# EAGLE library part CLP-107-XX-X-DH-XX_S (library con-samtec-clp)
RECEPTACAL
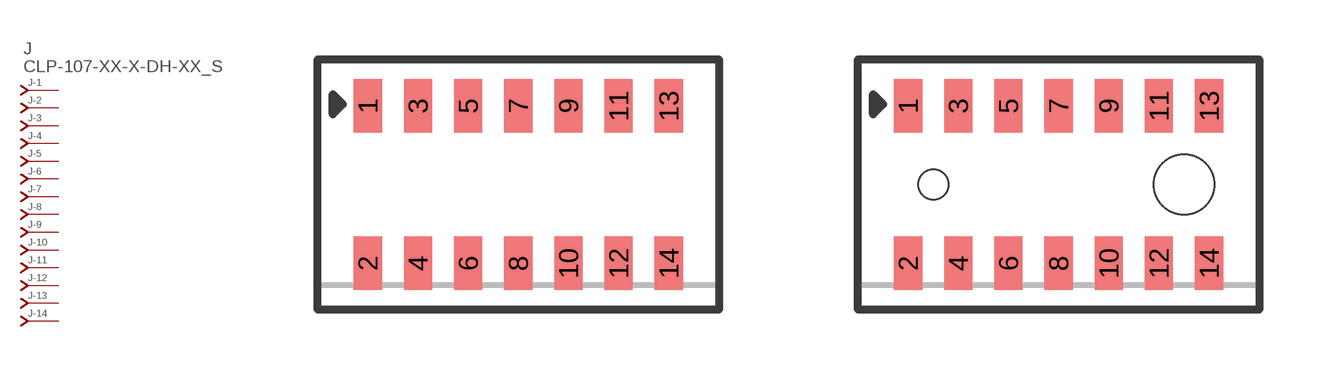
[diagram p12: symbol with the pads of CLP-107-XX-X-DH; footprints CLP-107-XX-X-DH, CLP-107-XX-X-DH-A]

Designator prefix J; gates -1=J-NV -2=J-N -3=J-N -4=J-N -5=J-N -6=J-N -7=J-N -8=J-N -9=J-N -10=J-N -11=J-N -12=J-N -13=J-N -14=J-N

## CLP-107-XX-X-DH-XX_S  [CLP-107-XX-X-DH]
1  -1:J  pas
2  -2:J  pas
3  -3:J  pas
4  -4:J  pas
5  -5:J  pas
6  -6:J  pas
7  -7:J  pas
8  -8:J  pas
9  -9:J  pas
10  -10:J  pas
11  -11:J  pas
12  -12:J  pas
13  -13:J  pas
14  -14:J  pas

## CLP-107-XX-X-DH-XX_SA  [CLP-107-XX-X-DH-A]
Pads as for CLP-107-XX-X-DH

## Footprint CLP-107-XX-X-DH (pad centres in mm)
RECEPTACAL
smd 0.711 x 1.346: 1 -3.81,1.994; 2 -3.81,-1.994; 3 -2.54,1.994; 4 -2.54,-1.994; 5 -1.27,1.994; 6 -1.27,-1.994; 7 0,1.994; 8 0,-1.994; 9 1.27,1.994; 10 1.27,-1.994; 11 2.54,1.994; 12 2.54,-1.994; 13 3.81,1.994; 14 3.81,-1.994

## Footprint CLP-107-XX-X-DH-A (pad centres in mm)
RECEPTACAL
smd 0.711 x 1.346: 1 -3.81,1.994; 2 -3.81,-1.994; 3 -2.54,1.994; 4 -2.54,-1.994; 5 -1.27,1.994; 6 -1.27,-1.994; 7 0,1.994; 8 0,-1.994; 9 1.27,1.994; 10 1.27,-1.994; 11 2.54,1.994; 12 2.54,-1.994; 13 3.81,1.994; 14 3.81,-1.994
hole 0.762 at -3.175,0
hole 1.524 at 3.175,0